# EAGLE library part WD-G0906WY-BOARD (library dragberry)
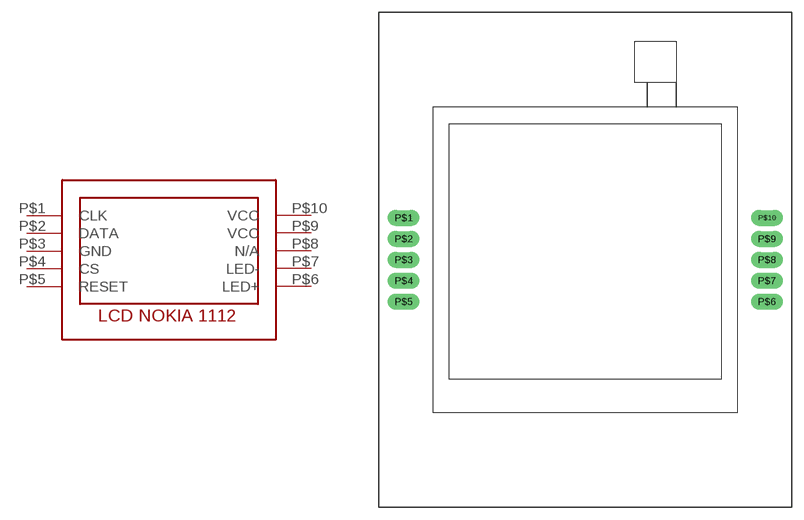
[diagram p2: symbol with the pads of WD-G0906WY-BOARD; footprint WD-G0906WY-BOARD]

Designator prefix HG

## WD-G0906WY-BOARD  [WD-G0906WY-BOARD]
P$1  CLK
P$2  DATA
P$3  GND
P$4  CS
P$5  RESET
P$6  LED+
P$7  LED-
P$8  N/A
P$9  VCC
P$10  VCC

## Footprint WD-G0906WY-BOARD (pad centres in mm)
drill 1.016 pad 1.93 long: P$1 -22,5.08; P$2 -22,2.54; P$3 -22,0; P$4 -22,-2.54; P$5 -22,-5.08; P$6 22,-5.08; P$7 22,-2.54; P$8 22,0; P$9 22,2.54; P$10 22,5.08